# Altium footprint library 元件库.PcbLib: 29 footprints (part 1 of 2)
Each footprint in its own frame and in the unit in brackets; x right, y up, seen from the top. Pads: shape width x height; smd on the part's side, far side on the other; paste and mask are expansions set on the pad; w line width, h text height; cw(c..) or ccw(c..) is an arc to the next point about the centre after c.
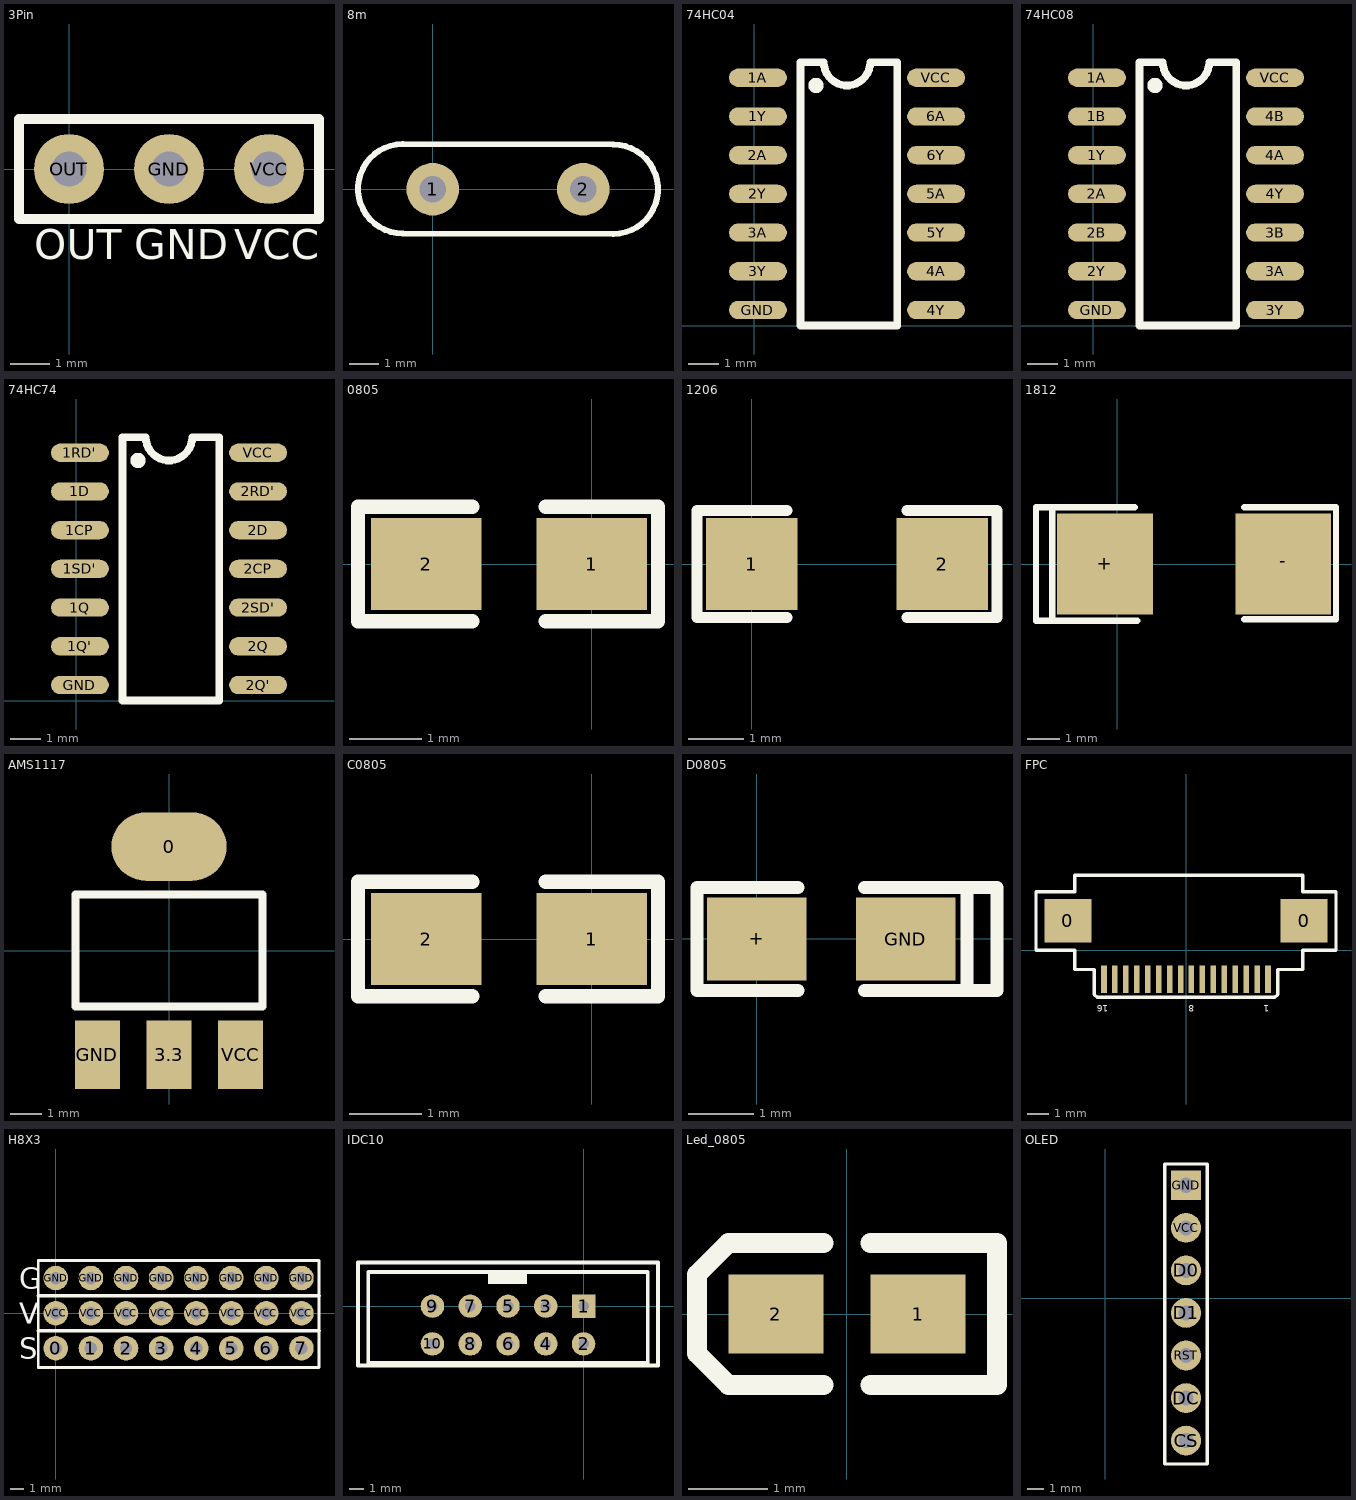
[diagram p0: the footprints below, top view; thin cyan lines are the x and y axes]

## 3Pin [mil] "红外接收"
pads (3):
  round 70 hole 35.43: GND(100,0) OUT(0,0) VCC(200,0)
Top Overlay:
  lines w10: -50,-50 250,-50 250,50 -50,50 -50,-50
  text "VCC" at 165,-90 h30
  text "GND" at 65,-90 h30
  text "OUT" at -35,-90 h30
3D body: height 336.22, standoff -118.11, extent -50,-50 250,50

## 8m [mil]
pads (2):
  round 70 hole 35.43: 1(0,0) 2(200,0)
Top Overlay:
  lines w7.87: -40,-59 cw(c-40,0.5) -40,60 240,59.5 cw(c240,0) 240,-59.5 -40,-59
3D body: height 137.8, standoff -157.48, extent -123.43,-90 323.43,93.07

## 74HC04 [mil]
height 50
pads (14):
  oval 74.8x23.62 smd: 1A(5,320) 1Y(5,270) 2A(5,220) 2Y(5,170) 3A(5,120) 3Y(5,70) 4A(235,70) 4Y(235,20) 5A(235,170) 5Y(235,120) 6A(235,270) 6Y(235,220) GND(5,20) VCC(235,320)
Top Overlay:
  circle w9.84: c80,310 r4.92
  lines w10: 60,0 185,0 185,340 150,340 cw(c120,340) 90,340 60,340 60,0
3D body: height 63.39, standoff 0, extent -2.04,-1.26 242.06,341.26

## 74HC08 [mil]
height 50
pads (14):
  oval 74.8x23.62 smd: 1A(5,320) 1B(5,270) 1Y(5,220) 2A(5,170) 2B(5,120) 2Y(5,70) 3A(235,70) 3B(235,120) 3Y(235,20) 4A(235,220) 4B(235,270) 4Y(235,170) GND(5,20) VCC(235,320)
Top Overlay:
  circle w9.84: c80,310 r4.92
  lines w10: 60,0 185,0 185,340 150,340 cw(c120,340) 90,340 60,340 60,0
3D body: height 63.39, standoff 0, extent -2.04,-1.26 242.06,341.26

## 74HC74 [mil]
height 50
pads (14):
  oval 74.8x23.62 smd: 1CP(5,220) 1D(5,270) 1Q(5,120) 1Q'(5,70) 1RD'(5,320) 1SD'(5,170) 2CP(235,170) 2D(235,220) 2Q(235,70) 2Q'(235,20) 2RD'(235,270) 2SD'(235,120) GND(5,20) VCC(235,320)
Top Overlay:
  circle w9.84: c80,310 r4.92
  lines w10: 60,0 185,0 185,340 150,340 cw(c120,340) 90,340 60,340 60,0
3D body: height 63.39, standoff 0, extent -2.04,-1.26 242.06,341.26

## 0805 [mil]
pads (2):
  rect 60x50 smd: 1(0,0) 2(-90,0)
Top Overlay:
  lines w7.87: -65,-31 -127,-31 -127,31 -65,31 ; -25,-31 36,-31 36,31 -25,31
3D body: height 21.65, standoff 0, extent -84.36,-24.8 -5.62,24.81

## 1206 [mil]
pads (2):
  rect 65x65 smd: 1(0,0) 2(135,0)
Top Overlay:
  lines w7.87: 25,-38 -39,-38 -39,38 25,38 ; 110,-38 174,-38 174,38 110,38
3D body: height 37.4, standoff -0.39, extent -15.72,-36.1 149.64,34.77

## 1812 [mil]
pads (2):
  rect 118.11x125 smd: +(-15,0) -(205,0)
Top Overlay:
  lines w7.87: 22,70 -80,70 ; 25,-70 -80,-70 ; 157,-68 270,-68 270,70 157,70 ; -80,-70 -80,70 ; -80,-70 -100,-70 -100,70 -80,70
3D body: height 102.36, standoff 0, extent -26.11,-61.99 210.11,63.99

## AMS1117 [mm]
pads (4):
  oval 3.7x2.2 smd: 0(0,3.348)
  rect 1.45x2.2 smd: 3.3(0,-3.347) GND(-2.3,-3.347) VCC(2.3,-3.347)
Top Overlay:
  lines w0.254: -3,-1.8 -3,1.8 3,1.8 3,-1.8 -3,-1.8
3D body: height 1.85, standoff -0.01, extent -3.302,-3.57 3.198,3.429

## C0805 [mil]
pads (2):
  rect 60x50 smd: 1(0,0) 2(-90,0)
Top Overlay:
  lines w7.87: -65,-31 -127,-31 -127,31 -65,31 ; -25,-31 36,-31 36,31 -25,31
3D body: height 36.61, standoff -0.39, extent -101.09,-26.27 17.02,28.85

## D0805 [mil]
pads (2):
  rect 60x50 smd: +(0,0) GND(90,0)
Top Overlay:
  lines w7.87: 25,-31 -36,-31 -36,31 25,31 ; 65,-31 127,-31 ; 65,31 127,31 ; 127,-31 127,31 ; 127,-31 145,-31 145,31 127,31
3D body: height 43.31, standoff -0.5, extent 5,-25 85,25

## FPC [mm] "0.5间距 抽屉式 16P"
height 5.85
pads (18):
  rect 2.159x2 smd: 0(-5.4,1.338) 0(5.4,1.338)
  rect 0.254x1.25 smd mask+0.05: 1(3.75,-1.338) 2(3.25,-1.338) 3(2.75,-1.338) 4(2.25,-1.338) 5(1.75,-1.338) 6(1.25,-1.338) 7(0.75,-1.338) 8(0.25,-1.338) 9(-0.25,-1.338) 10(-0.75,-1.338) 11(-1.25,-1.338) 12(-1.75,-1.338) 13(-2.25,-1.338) 14(-2.75,-1.338) 15(-3.25,-1.338) 16(-3.75,-1.338)
Top Overlay:
  lines w0.152: -6.858,0 -6.858,2.667 -5.08,2.667 -5.08,3.429 5.334,3.429 5.334,2.667 6.858,2.667 6.858,0 5.334,0 5.334,-0.889 4.191,-0.889 4.191,-2.032 4.064,-2.159 -4.064,-2.159 -4.191,-2.032 -4.191,-0.889 -5.08,-0.889 -5.08,0 -6.858,0
  text "1" at 3.81,-2.413 h0.51
  text "8" at 0.381,-2.413 h0.51
  text "16" at -3.556,-2.413 h0.51
3D body: height 0.82, standoff -0.18, extent -4.873,-0.625 5.127,3.175

## H8X3 [mil]
height 200
pads (24):
  round 70 hole 35.43: 0(0,-100) 1(100,-100) 2(200,-100) 3(300,-100) 4(400,-100) 5(500,-100) 6(600,-100) 7(700,-100) GND(0,100) GND(100,100) GND(200,100) GND(300,100) GND(400,100) GND(500,100) GND(600,100) GND(700,100) VCC(0,0) VCC(100,0) VCC(200,0) VCC(300,0) VCC(400,0) VCC(500,0) VCC(600,0) VCC(700,0)
Top Overlay:
  lines w7.87: -50,-155 -50,150 750,150 750,-155 -50,-155
  lines w10: -50,-50 750,-50 ; -50,50 750,50
  text "S" at -105,-130 h60
  text "V" at -105,-30 h60
  text "G" at -105,70 h60
3D body: height 336.22, standoff -118.11, extent -49.99,50.01 750.01,150.01
3D body: height 336.22, standoff -118.11, extent -49.99,-49.99 750.01,50.01
3D body: height 336.22, standoff -118.11, extent -49.99,-149.99 750.01,-49.99

## IDC10 [mil]
pads (10):
  rect 62x62 hole 28: 1(0,0)
  round 62 hole 28: 2(0,-100) 3(-100,0) 4(-100,-100) 5(-200,0) 6(-200,-100) 7(-300,0) 8(-300,-100) 9(-400,0) 10(-400,-100)
Top Overlay:
  rectangle: -253,58 -150,90
  lines w10: -597,-157 197,-157 197,115.35 -597,115.35 -597,-157 ; -570,-150 -570,90 170,90 170,-150 -570,-150
3D body: height 336.22, standoff -118.11, extent -450,-150 50,-50
3D body: height 336.22, standoff -118.11, extent -450,-50 50,50
3D body: height 314.96, standoff 0, extent -550,-175 150,75
3D body: height 118.11, standoff 0, extent -525,-155 125,75

## Led_0805 [mm]
pads (2):
  rect 1.2x1 smd: 1(0.9,0) 2(-0.9,0)
Top Overlay:
  lines w0.254: -0.3,-0.9 -1.5,-0.9 -1.9,-0.5 ; -0.3,0.9 -1.5,0.9 -1.9,0.5 ; 0.3,-0.9 1.9,-0.9 1.9,0.9 0.3,0.9 ; -1.9,-0.5 -1.9,0.5 ; -1.9,-0.5 -1.9,-0.5 ; -1.9,0.5 -1.9,0.5
3D body: height 1.1, standoff 0, extent -1.035,-0.66 0.985,0.59

## OLED [mil] "Connector; Header; 6 Position"
height 230.31
pads (7):
  round 70 hole 35.43: CS(190,-335) D0(190,65) D1(190,-35) DC(190,-235) RST(190,-135) VCC(190,165)
  rect 70x70 hole 35.43: GND(190,265)
Top Overlay:
  lines w7.87: 140,-390 140,315 240,315 240,-390 140,-390
3D body: height 336.22, standoff -118.11, extent 140.01,-385.01 240.01,314.99